# EAGLE library part TS5A3359DCUT (library TS5A3359DCUT)
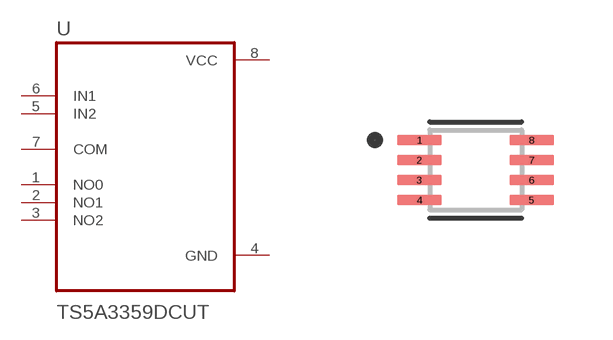
[diagram p0: symbol with the pads of SOP50P310X90-8N; footprint SOP50P310X90-8N]

Designator prefix U

## TS5A3359DCUT (Description: 1-?, 5-V, 3:1 (SP3T), 1-channel analog multiplexer 8-VSSOP -40 to 85; Digi-Key_Part_Number: 296-32595-1-ND; MF: Texas Instruments; MP: TS5A3359DCUT; Package: VSSOP-8 Texas Instruments; Purchase-URL: https://pricing.snapeda.com/search/part/TS5A3359DCUT/?ref=eda)  [SOP50P310X90-8N]
1  NO0
2  NO1
3  NO2
4  GND  pwr
5  IN2  in
6  IN1  in
7  COM
8  VCC  pwr

## Footprint SOP50P310X90-8N (pad centres in mm)
smd 1.12 x 0.27: 1 -1.405,0.75; 2 -1.405,0.25; 3 -1.405,-0.25; 4 -1.405,-0.75; 5 1.405,-0.75; 6 1.405,-0.25; 7 1.405,0.25; 8 1.405,0.75